# Altium schematic symbol library GenericSymbols.SchLib: 20 symbols
Pins are listed as number, name and electrical type; pins without a type are passive.

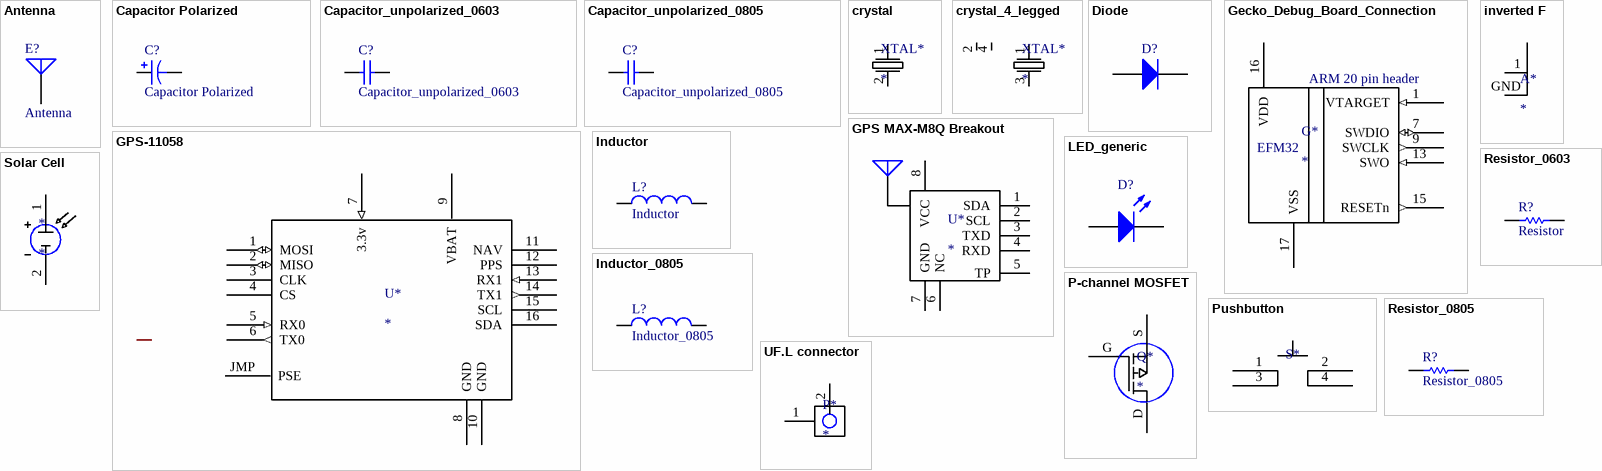
[diagram p0: symbols Antenna to UF.L connector]

## Antenna
designator E?
Generic Antenna; Published: 24-Mar-1999; LatestRevisionDate: 17-Jul-2002; LatestRevisionNote: Re-released for DXP Platform.; PackageReference: PIN1; Publisher: Altium Limited
footprint PIN1 (Generic Antenna; 1 Lead)
pins: 1 A

## Capacitor Polarized
designator C?
Polarized Capacitor; Published: 8-Jun-2000; LatestRevisionDate: 17-Jul-2002; LatestRevisionNote: Re-released for DXP Platform.; PackageReference: POLAR0.8; Publisher: Altium Limited; PackageDescription: Polarized Capacitor; 2 Leads
footprint POLAR0.8 (Polarized Capacitor; 2 Leads)
simulation model CAP (Capacitor)
signal-integrity model Cap Pol
pins: 1, 2
1 alternate drawing of the same symbol

## Capacitor_unpolarized_0603
designator C?
Capacitor 0603; Published: 8-Jun-2000; LatestRevisionDate: 17-Jul-2002; LatestRevisionNote: Re-released for DXP Platform.; PackageReference: RAD-0.3; Publisher: Altium Limited; PackageDescription: Radial Cap, Thru-Hole; 2 Leads; 0.3 in Pin Spacing
simulation model CAP (Capacitor)
signal-integrity model Cap
footprint 1608[0603] (Chip Capacitor, Body 1.6x0.8mm, IPC High Density)
pins: 1, 2

## Capacitor_unpolarized_0805
designator C?
Capacitor 0805; Published: 8-Jun-2000; LatestRevisionDate: 17-Jul-2002; LatestRevisionNote: Re-released for DXP Platform.; PackageReference: RAD-0.3; Publisher: Altium Limited; PackageDescription: Radial Cap, Thru-Hole; 2 Leads; 0.3 in Pin Spacing
simulation model CAP (Capacitor)
signal-integrity model Cap
pins: 1, 2

## crystal
designator XTAL*
crystal
pins: 1, 2

## crystal_4_legged
designator XTAL*
crystal
pins: 1, 2, 3, 4

## Diode
designator D?
Default Diode; Published: 8-Jun-2000; LatestRevisionDate: 17-Jul-2002; LatestRevisionNote: Re-released for DXP Platform.; PackageVersion: Sep-1996; PackageReference: SMC; Publisher: Altium Limited; PackageDescription: DO-214-AB/SMC; 2 C-Bend Leads; Body 7.9 x 5.9 mm, inc. leads (LxW); Code_JEDEC: DO-214-AB
simulation model DIODE (Diode)
signal-integrity model Diode
pins: 1 Anode, 2 Cathode

## Gecko_Debug_Board_Connection
designator G*
Leopard Gecko Debug
pins: 1 VTARGET (in), 7 SWDIO (io), 9 SWCLK (out), 13 SWO (in), 15 RESETn (out), 16 VDD (power), 17 VSS (power)
text: ARM 20 pin header; EFM32

## GPS MAX-M8Q Breakout
designator U*
uBLOX MAX-M8Q GPS Breakout for Active
pins: 1 SDA, 2 SCL, 3 TXD, 4 RXD, 5 TP, 6 NC, 7 GND, 8 VCC, 9 A

## GPS-11058
designator U*
pins: 1 MOSI (io), 2 MISO (io), 3 CLK, 4 CS, 5 RX0 (in), 6 TX0 (out), 7 3.3v (in), 8 GND (power), 9 VBAT (power), 10 GND (power), 11 NAV, 12 PPS, 13 RX1 (in), 14 TX1 (out), 15 SCL, 16 SDA, JMP PSE

## Inductor
designator L?
Code_IEC: 1005; Published: 8-Jun-2000; LatestRevisionDate: 29-May-2009; LatestRevisionNote: IPC-7351 Footprint Added.; PackageReference: 0402-A; Publisher: Altium Limited; PackageDescription: Chip Inductor; Code_JEITA: 0402
footprint 0402-A (Chip Inductor, Body 1.0x0.5mm, IPC High Density)
footprint INDC1608L (Chip Inductor, Body 1.6x0.8mm, IPC High Density)
footprint 2029 (Chip Inductor, Body 2.0x1.2mm, IPC High Density)
footprint 0603 (Chip Inductor, Body 0.6x0.3mm, IPC High Density)
footprint INDC3216 (Chip Inductor, Body 3.2x1.6mm, IPC High Density)
footprint INDC4532 (Chip Inductor, Body 4.5x3.2mm, IPC High Density)
simulation model INDUCTOR (Inductor)
signal-integrity model Inductor
pins: 1, 2

## Inductor_0805
designator L?
Inductor; Code_IEC: 1005; Published: 8-Jun-2000; LatestRevisionDate: 29-May-2009; LatestRevisionNote: IPC-7351 Footprint Added.; PackageReference: 0805; Publisher: Altium Limited; PackageDescription: 0805; Code_JEITA: 0402
footprint 0402-A (Chip Inductor, Body 1.0x0.5mm, IPC High Density)
footprint INDC1608L (Chip Inductor, Body 1.6x0.8mm, IPC High Density)
footprint 2029 (Chip Inductor, Body 2.0x1.2mm, IPC High Density)
footprint 0603 (Chip Inductor, Body 0.6x0.3mm, IPC High Density)
footprint INDC3216 (Chip Inductor, Body 3.2x1.6mm, IPC High Density)
footprint INDC4532 (Chip Inductor, Body 4.5x3.2mm, IPC High Density)
simulation model INDUCTOR (Inductor)
signal-integrity model Inductor
pins: 1, 2

## inverted F
designator A*
inverted F antenna
pins: 1, GND

## LED_generic
designator D?, comment LED Generic  (value not drawn)
Typical RED, GREEN, YELLOW; LatestRevisionDate: 17-Jul-2002; PackageDescription: SM LED; 2 Flat Leads
simulation model LED2 (Diode)
pins: 1 A, 2 K

## P-channel MOSFET
designator Q*
P-channel MOSFET
pins: D, G, S

## Pushbutton
designator S*, comment Switch  (value not drawn)
Pushbutton Switch
pins: 1, 2, 3, 4

## Resistor_0603
designator R?, comment Resistor
Resistor 0603; Published: 8-Jun-2000; LatestRevisionDate: 17-Jul-2002; LatestRevisionNote: Re-released for DXP Platform.; PackageReference: AXIAL-0.5; Publisher: Altium Limited; PackageDescription: Axial Device, Thru-Hole; 2 Leads; 0.5 in Pin Spacing
simulation model RES (Semiconductor Resistor)
signal-integrity model Res Semi
footprint 1608[0603] (Chip Capacitor, Body 1.6x0.8mm, IPC High Density)
pins: 1, 2

## Resistor_0805
designator R?
Resistor 0805; Published: 8-Jun-2000; LatestRevisionDate: 17-Jul-2002; LatestRevisionNote: Re-released for DXP Platform.; PackageReference: AXIAL-0.5; Publisher: Altium Limited; PackageDescription: Axial Device, Thru-Hole; 2 Leads; 0.5 in Pin Spacing
simulation model RES (Semiconductor Resistor)
signal-integrity model Res Semi
pins: 1, 2

## Solar Cell
designator *
IXOLAR SLMD121H08L
pins: 1 (power), 2 (power)

## UF.L connector
designator P*
pins: 1, 2